# Altium footprint library L.PcbLib: 12 footprints
Each footprint in its own frame and in the unit in brackets; x right, y up, seen from the top. Pads: shape width x height; smd on the part's side, far side on the other; paste and mask are expansions set on the pad; w line width, h text height; cw(c..) or ccw(c..) is an arc to the next point about the centre after c.
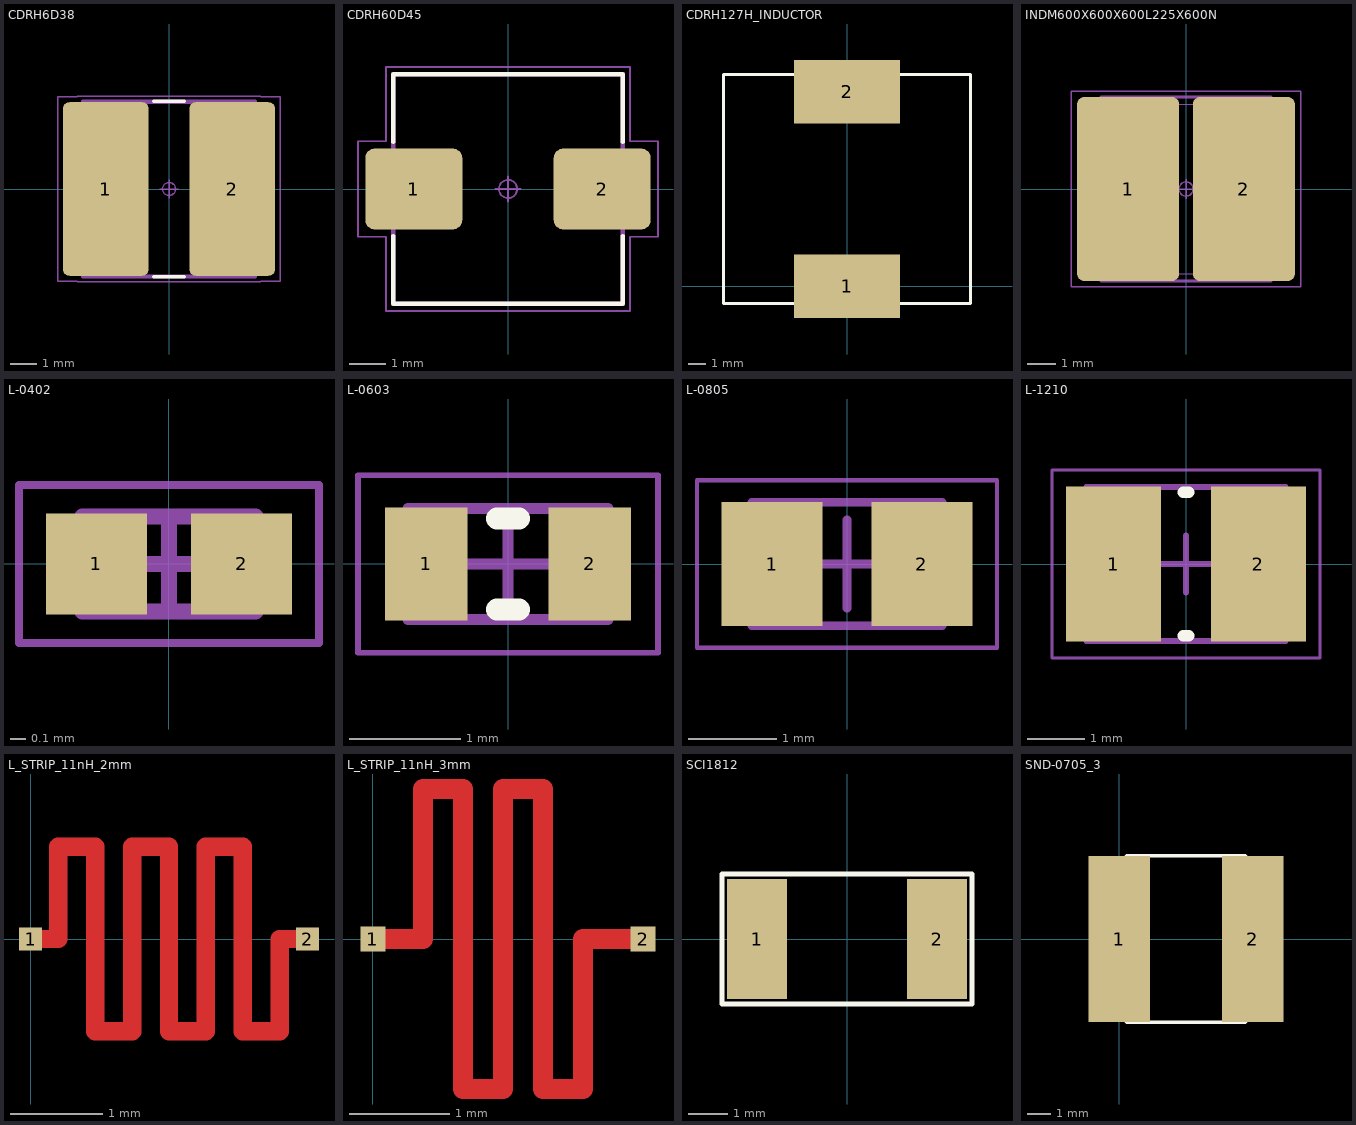
[diagram p0: the footprints below, top view; thin cyan lines are the x and y axes]

## CDRH6D38 [mm] "Inductor, Molded Body; 6.50 mm L X 6.55 mm W X 4.00 mm H body"
height 4
pads (2):
  rrect15% 3.28x6.63 smd: 1(-2.415,0) 2(2.415,0)
Top Overlay:
  lines w0.12: -0.595,-3.35 0.595,-3.35 ; -0.595,3.35 0.595,3.35
Mechanical 11:
  lines w0.12: -3.3,-3.35 -3.3,3.35 3.3,3.35 3.3,-3.35 -3.3,-3.35
Mechanical 12:
  lines w0.025: -3.35,-3.25 -1.1,-3.25 -1.1,3.25 -3.35,3.25 -3.35,-3.25 ; -3.25,-3.275 -3.25,3.275 3.25,3.275 3.25,-3.275 -3.25,-3.275 ; 1.1,-3.25 1.1,3.25 3.35,3.25 3.35,-3.25 1.1,-3.25
Mechanical 15:
  circle w0.05: c0,0 r0.25
  lines w0.05: -0.35,0 0.35,0 ; 0,-0.35 0,0.35 ; -4.255,-3.515 -4.255,3.515 -3.5,3.515 -3.5,3.55 3.5,3.55 3.5,3.515 4.255,3.515 4.255,-3.515 3.5,-3.515 3.5,-3.55 -3.5,-3.55 -3.5,-3.515 -4.255,-3.515
Mechanical 16:
  text ".Designator" at 0,0 h1.2
3D body "CDRH6D38.STEP": height 4, standoff 0, extent -3.35,-3.275 3.35,3.275

## CDRH60D45 [mm] "Inductor, Molded Body; 6.20 mm L X 6.20 mm W X 4.80 mm H body"
height 4.8
pads (2):
  rrect23% 2.66x2.22 smd: 1(-2.585,0) 2(2.585,0)
Top Overlay:
  lines w0.12: -3.15,-1.29 -3.15,-3.15 3.15,-3.15 3.15,-1.29 ; -3.15,1.29 -3.15,3.15 3.15,3.15 3.15,1.29
Mechanical 11:
  lines w0.12: -3.15,-3.15 -3.15,3.15 3.15,3.15 3.15,-3.15 -3.15,-3.15
Mechanical 12:
  lines w0.025: -3.25,-1 -1.55,-1 -1.55,1 -3.25,1 -3.25,-1 ; -3.1,-3.1 -3.1,3.1 3.1,3.1 3.1,-3.1 -3.1,-3.1 ; 1.55,-1 1.55,1 3.25,1 3.25,-1 1.55,-1
Mechanical 15:
  circle w0.05: c0,0 r0.25
  lines w0.05: -0.35,0 0.35,0 ; 0,-0.35 0,0.35 ; -4.115,-1.31 -4.115,1.31 -3.35,1.31 -3.35,3.35 3.35,3.35 3.35,1.31 4.115,1.31 4.115,-1.31 3.35,-1.31 3.35,-3.35 -3.35,-3.35 -3.35,-1.31 -4.115,-1.31
Mechanical 16:
  text ".Designator" at 0,0 h1.2
3D body "CDRH60D45.STEP": height 4.8, standoff 0, extent -3.25,-3.1 3.25,3.1

## CDRH127H_INDUCTOR [mm]
pads (2):
  rect 6x3.6 smd: 1(0,0) 2(0,11)
Top Overlay:
  lines w0.17: -3,-1 -7,-1 -7,12 -4,12 -3,12 ; 3,-1 7,-1 7,12 3,12
3D body "SUMIDA-CDRH127.step": height 7.5, standoff 0.05, extent -6,-0.671 6,11.671

## INDM600X600X600L225X600N [mm] "Inductor, Molded Body; 5.50 mm L X 6.00 mm W X 6.00 mm H body"
height 6
pads (2):
  rrect14% 3.61x6.51 smd: 1(-2.045,0) 2(2.045,0)
Mechanical 11:
  lines w0.12: -3,-3.25 -3,3.25 3,3.25 3,-3.25 -3,-3.25
Mechanical 12:
  lines w0.025: -3,-3 -0.75,-3 -0.75,3 -3,3 -3,-3 ; -2.75,-3 -2.75,3 2.75,3 2.75,-3 -2.75,-3 ; 0.75,-3 0.75,3 3,3 3,-3 0.75,-3
Mechanical 15:
  circle w0.05: c0,0 r0.25
  lines w0.05: -0.35,0 0.35,0 ; 0,-0.35 0,0.35 ; -4.05,-3.455 4.05,-3.455 4.05,3.455 -4.05,3.455 -4.05,-3.455
Mechanical 16:
  text ".Designator" at 0,0 h1.2
3D body "INDM600X600X600L225X600.STEP": height 6, standoff 0, extent -3,-3 3,3

## L-0402 [mm]
pads (2):
  rect 0.64x0.64 smd: 1(-0.46,0) 2(0.46,0)
Mechanical 13:
  lines w0.1: -0.55,-0.3 0.55,-0.3 0.55,0.3 -0.55,0.3 -0.55,-0.3
Mechanical 15:
  lines w0.05: -0.95,-0.5 0.95,-0.5 0.95,0.5 -0.95,0.5 -0.95,-0.5
  lines w0.1: -0.3,0 0.3,0 ; 0,-0.3 0,0.3
3D body: height 0.6, standoff 0, extent -0.55,-0.3 -0.35,0.3
3D body: height 0.6, standoff 0, extent 0.35,-0.3 0.55,0.3
3D body: height 0.6, standoff 0, extent -0.35,-0.3 0.35,0.3

## L-0603 [mm] "Chip Inductor, 2-Leads, Body 1,60x0,80mm, IPC Medium Density"
height 1
pads (2):
  rect 0.74x1.02 smd: 1(-0.735,0) 2(0.735,0)
Top Overlay:
  lines w0.2: -0.1,-0.41 0.1,-0.41 ; -0.1,0.41 0.1,0.41
Mechanical 13:
  lines w0.1: -0.9,-0.5 0.9,-0.5 0.9,0.5 -0.9,0.5 -0.9,-0.5
Mechanical 15:
  lines w0.05: -1.35,-0.8 1.35,-0.8 1.35,0.8 -1.35,0.8 -1.35,-0.8
  lines w0.1: -0.5,0 0.5,0 ; 0,-0.5 0,0.5
3D body "INDC1608X10N.step": height 1, standoff 0, extent -0.9,-0.5 0.9,0.5

## L-0805 [mm] "Chip Inductor 2-Leads, Body 2,00x1,25mm, IPC Medium Density"
height 1
pads (2):
  rect 1.15x1.4 smd: 1(-0.85,0) 2(0.85,0)
Mechanical 13:
  lines w0.1: -1.075,-0.7 1.075,-0.7 1.075,0.7 -1.075,0.7 -1.075,-0.7
Mechanical 15:
  lines w0.05: -1.7,-0.95 1.7,-0.95 1.7,0.95 -1.7,0.95 -1.7,-0.95
  lines w0.1: -0.5,0 0.5,0 ; 0,-0.5 0,0.5
3D body "L_0805_2012Metric.step": height 1.25, standoff 0, extent -1,-0.625 1,0.625

## L-1210 [mm] "Chip Inductor, 2-Leads, Body 3,20x2,50mm, IPC Medium Density"
height 2.2
pads (2):
  rect 1.67x2.72 smd: 1(-1.27,0) 2(1.27,0)
Top Overlay:
  lines w0.2: -0.05,-1.26 0.05,-1.26 ; -0.05,1.26 0.05,1.26
Mechanical 13:
  lines w0.1: -1.75,-1.35 -1.75,1.35 1.75,1.35 1.75,-1.35 -1.75,-1.35
Mechanical 15:
  lines w0.05: -2.35,-1.65 -2.35,1.65 2.35,1.65 2.35,-1.65 -2.35,-1.65
  lines w0.1: -0.5,0 0.5,0 ; 0,-0.5 0,0.5
3D body: height 2.2, standoff 0, extent -0.85,-1.35 0.85,1.35
3D body: height 2.2, standoff 0, extent -1.75,-1.35 -0.85,1.35
3D body: height 2.2, standoff 0, extent 0.85,-1.35 1.75,1.35

## L_STRIP_11nH_2mm [mm]
pads (2):
  rect 0.25x0.25 smd: 1(0,0) 2(3,0)
Top Layer:
  lines w0.2: 0,0 0.3,0 0.3,1 0.7,1 0.7,-1 1.1,-1 1.1,1 1.5,1 1.5,-1 1.9,-1 1.9,1 2.3,1 2.3,-1 2.7,-1 2.7,0 3,0

## L_STRIP_11nH_3mm [mm]
pads (2):
  rect 0.25x0.25 smd: 1(0,0) 2(2.7,0)
Top Layer:
  lines w0.2: 0,0 0.5,0 0.5,1.5 0.9,1.5 0.9,-1.5 1.3,-1.5 1.3,1.5 1.7,1.5 1.7,-1.5 2.1,-1.5 2.1,0 2.7,0

## SCI1812 [mil]
pads (2):
  rect 60x120 smd: 1(-90,0) 2(90,0)
Top Overlay:
  lines w5: -125,-65 125,-65 125,65 -125,65 -125,-65
3D body "L_1812_4532Metric.step": height 98.43, standoff 0, extent -88.58,-62.99 88.58,63

## SND-0705_3 [mm]
height 5
pads (2):
  rect 2.6x7 smd: 1(0,0) 2(5.625,0)
Top Overlay:
  lines w0.15: 0.325,-3.5 cw(c3.825,0) 0.325,3.5 5.3,3.5 cw(c1.8,0) 5.3,-3.5 0.325,-3.5
3D body "SMD_Inductor_CD75.step": height 4.98, standoff -0.01, extent -1.1,-3.5 6.7,3.5